# Altium integrated library A7672S.IntLib: 1 symbol
Pins are listed as number, name and electrical type; pins without a type are passive.

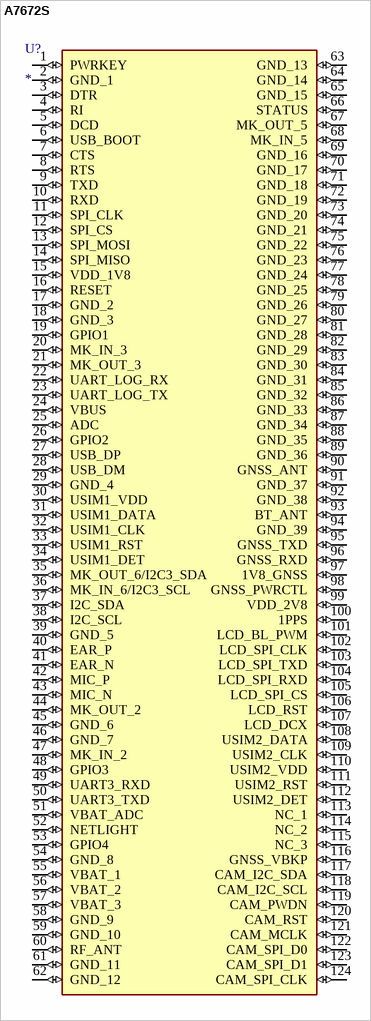
[diagram p0: symbol A7672S]

## A7672S
designator U?
LTE Cat 1 Module On Module 10Mbps 700MHz/800MHz/900MHz/1700MHz/1800MHz/1900MHz/2100MHz 33dBm 3.4V to 4.2V -109dBm; MF: SIMCom; MP: A7672S; SnapEDA_Link: https://www.snapeda.com/parts/A7672S/SIMCom/view-part/?ref=snap; Package: Package; Value: *; Check_prices: https://www.snapeda.com/parts/A7672S/SIMCom/view-part/?ref=eda
footprint A7672S
pins: 1 PWRKEY (io), 2 GND_1 (io), 3 DTR (io), 4 RI (io), 5 DCD (io), 6 USB_BOOT (io), 7 CTS (io), 8 RTS (io), 9 TXD (io), 10 RXD (io), 11 SPI_CLK (io), 12 SPI_CS (io), 13 SPI_MOSI (io), 14 SPI_MISO (io), 15 VDD_1V8 (io), 16 RESET (io), 17 GND_2 (io), 18 GND_3 (io), 19 GPIO1 (io), 20 MK_IN_3 (io), 21 MK_OUT_3 (io), 22 UART_LOG_RX (io), 23 UART_LOG_TX (io), 24 VBUS (io), 25 ADC (io), 26 GPIO2 (io), 27 USB_DP (io), 28 USB_DM (io), 29 GND_4 (io), 30 USIM1_VDD (io), 31 USIM1_DATA (io), 32 USIM1_CLK (io), 33 USIM1_RST (io), 34 USIM1_DET (io), 35 MK_OUT_6/I2C3_SDA (io), 36 MK_IN_6/I2C3_SCL (io), 37 I2C_SDA (io), 38 I2C_SCL (io), 39 GND_5 (io), 40 EAR_P (io), 41 EAR_N (io), 42 MIC_P (io), 43 MIC_N (io), 44 MK_OUT_2 (io), 45 GND_6 (io), 46 GND_7 (io), 47 MK_IN_2 (io), 48 GPIO3 (io), 49 UART3_RXD (io), 50 UART3_TXD (io), 51 VBAT_ADC (io), 52 NETLIGHT (io), 53 GPIO4 (io), 54 GND_8 (io), 55 VBAT_1 (io), 56 VBAT_2 (io), 57 VBAT_3 (io), 58 GND_9 (io), 59 GND_10 (io), 60 RF_ANT (io), 61 GND_11 (io), 62 GND_12 (io), 63 GND_13 (io), 64 GND_14 (io), 65 GND_15 (io), 66 STATUS (io), 67 MK_OUT_5 (io), 68 MK_IN_5 (io), 69 GND_16 (io), 70 GND_17 (io), 71 GND_18 (io), 72 GND_19 (io), 73 GND_20 (io), 74 GND_21 (io), 75 GND_22 (io), 76 GND_23 (io), 77 GND_24 (io), 78 GND_25 (io), 79 GND_26 (io), 80 GND_27 (io), 81 GND_28 (io), 82 GND_29 (io), 83 GND_30 (io), 84 GND_31 (io), 85 GND_32 (io), 86 GND_33 (io), 87 GND_34 (io), 88 GND_35 (io), 89 GND_36 (io), 90 GNSS_ANT (io), 91 GND_37 (io), 92 GND_38 (io), 93 BT_ANT (io), 94 GND_39 (io), 95 GNSS_TXD (io), 96 GNSS_RXD (io), 97 1V8_GNSS (io), 98 GNSS_PWRCTL (io), 99 VDD_2V8 (io), 100 1PPS (io), 101 LCD_BL_PWM (io), 102 LCD_SPI_CLK (io), 103 LCD_SPI_TXD (io), 104 LCD_SPI_RXD (io), 105 LCD_SPI_CS (io), 106 LCD_RST (io), 107 LCD_DCX (io), 108 USIM2_DATA (io), 109 USIM2_CLK (io), 110 USIM2_VDD (io), 111 USIM2_RST (io), 112 USIM2_DET (io), 113 NC_1 (io), 114 NC_2 (io), 115 NC_3 (io), 116 GNSS_VBKP (io), 117 CAM_I2C_SDA (io), 118 CAM_I2C_SCL (io), 119 CAM_PWDN (io), 120 CAM_RST (io), 121 CAM_MCLK (io), 122 CAM_SPI_D0 (io), 123 CAM_SPI_D1 (io), 124 CAM_SPI_CLK (io)